# EAGLE library part WSEN-ITDS_25330202016011 (library WSEN)
WSEN-ITDS 3 Axis Acceleration Sensor Details see: www.we-online.com/en/components/products/WSEN-ITDS
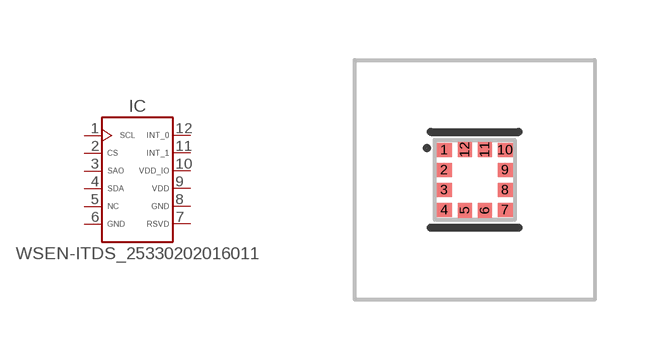
[diagram p19: symbol with the pads of WSEN-ITDS_2533020201601; footprint WSEN-ITDS_2533020201601]

Designator prefix IC

## WSEN-ITDS_25330202016011 (DATASHEET: https://www.we-online.com/redexpert/spec/25330202016011?ae; HEIGHT: 0.7mm; MANUFACTURER: Würth Elektronik; MOUNT: SMT; PART-NUMBER: 25330202016011; VALUE: 25330202016011)  [WSEN-ITDS_2533020201601]
1  SCL  in
2  CS  in
3  SAO
4  SDA
5  NC  nc
6  GND  pwr
7  RSVD
8  GND  pwr
9  VDD  pwr
10  VDD_IO  pwr
11  INT_1
12  INT_0  out

## Footprint WSEN-ITDS_2533020201601 (pad centres in mm)
WSEN-ITDS 3 Axis Acceleration Sensor SMT, 12pins LXWXH=2mmX2mmX0.7mm
smd 0.375 x 0.35: 1 -0.762,0.75; 2 -0.762,0.25; 3 -0.762,-0.25; 4 -0.762,-0.75; 7 0.762,-0.75; 8 0.762,-0.25; 9 0.762,0.25; 10 0.762,0.75
smd 0.35 x 0.375: 5 -0.25,-0.762; 6 0.25,-0.762; 11 0.25,0.762; 12 -0.25,0.762